# Altium schematic symbol library 750315126.Schlib: 1 symbol
Pins are listed as number, name and electrical type; pins without a type are passive.

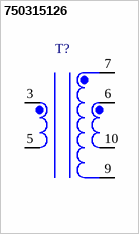
[diagram p0: symbol 750315126]

## 750315126
designator T?
Power Transformers WE-FB SMD Flyback On REFDesign LTC8304
pins: 3, 5, 6, 7, 9, 10